# EAGLE library part STM32F730Z8 (library sjg-stm32)
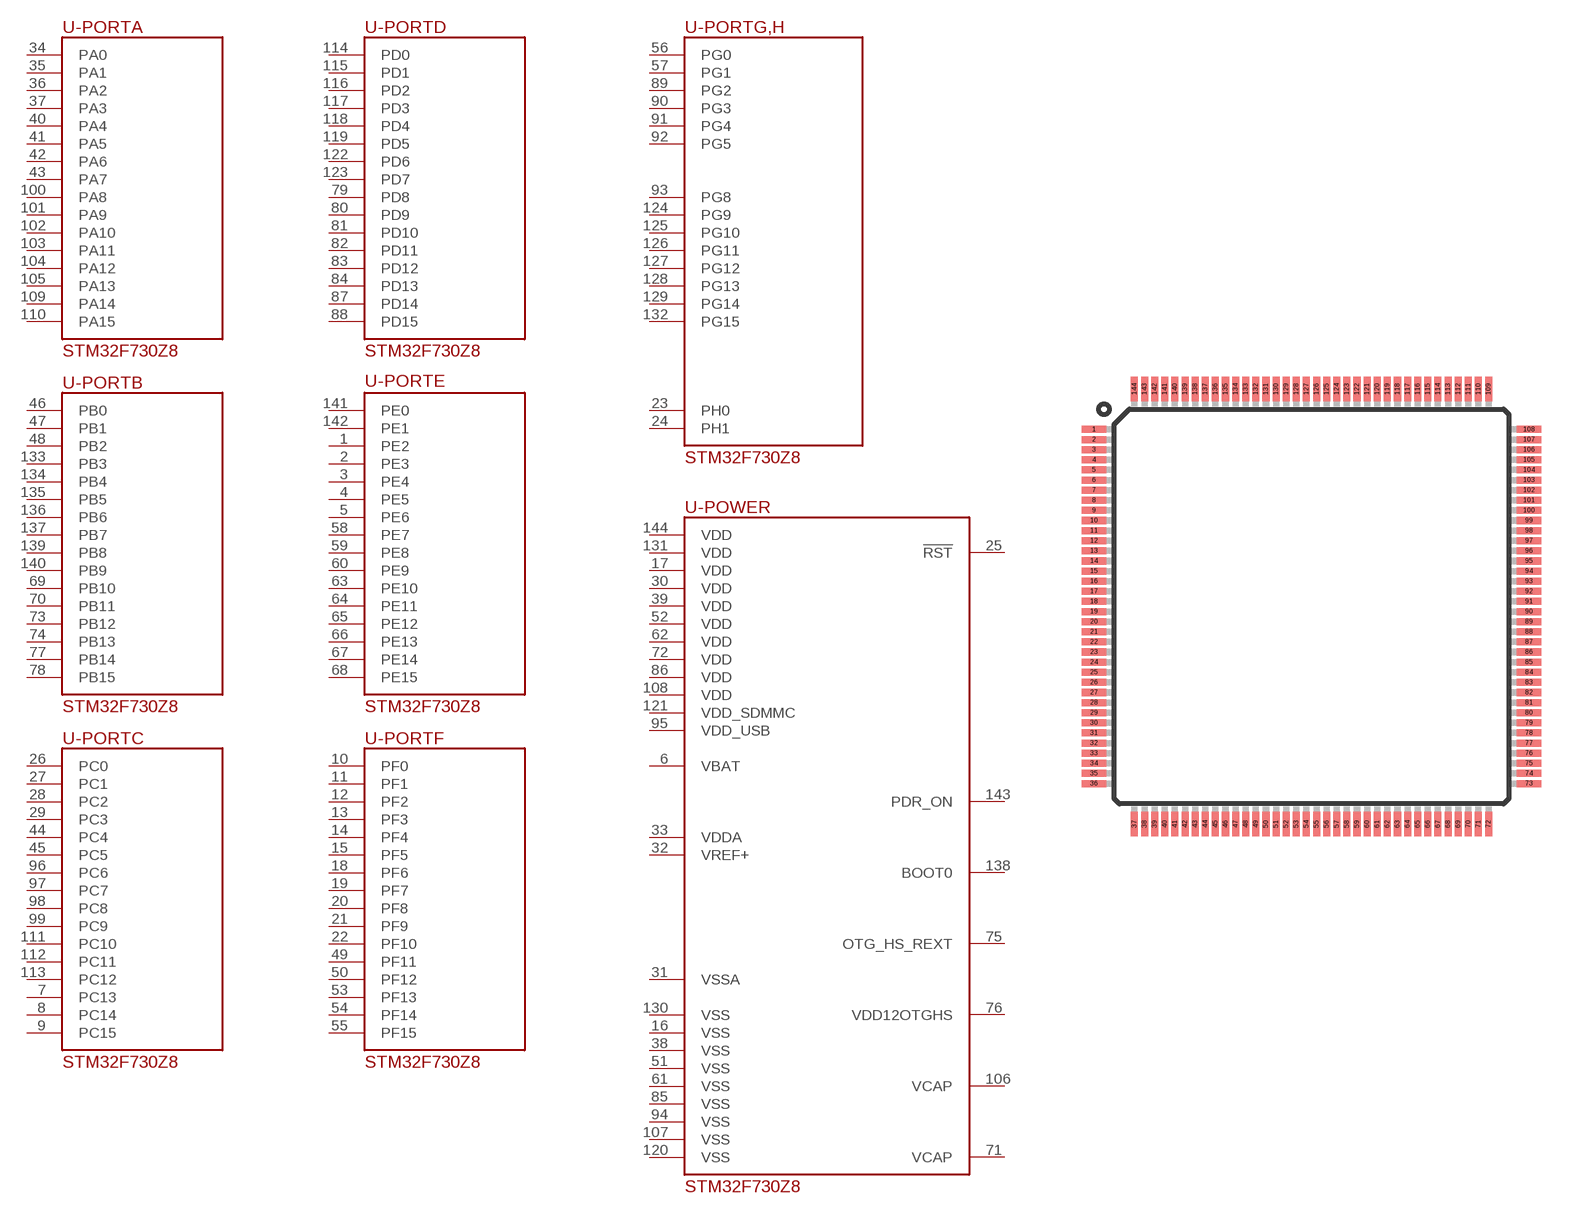
[diagram p10: symbol with the pads of PQFP144; footprint PQFP144]

Designator prefix -; gates -PORTA=STM32F730Z8-A -PORTB=STM32F730Z8-B -PORTC=STM32F730Z8-C -PORTD=STM32F730Z8-D -PORTE=STM32F730Z8-E -PORTF=STM32F730Z8-F -PORTG,H=STM32F730Z8-GH -POWER=STM32F730Z8-POWER

## STM32F730Z8QFP144  [PQFP144]
1  -PORTE:PE2
2  -PORTE:PE3
3  -PORTE:PE4
4  -PORTE:PE5
5  -PORTE:PE6
6  -POWER:VBAT
7  -PORTC:PC13
8  -PORTC:PC14
9  -PORTC:PC15
10  -PORTF:PF0
11  -PORTF:PF1
12  -PORTF:PF2
13  -PORTF:PF3
14  -PORTF:PF4
15  -PORTF:PF5
16  -POWER:VSS
17  -POWER:VDD
18  -PORTF:PF6
19  -PORTF:PF7
20  -PORTF:PF8
21  -PORTF:PF9
22  -PORTF:PF10
23  -PORTG,H:PH0
24  -PORTG,H:PH1
25  -POWER:!RST!
26  -PORTC:PC0
27  -PORTC:PC1
28  -PORTC:PC2
29  -PORTC:PC3
30  -POWER:VDD
31  -POWER:VSSA
32  -POWER:VREF+
33  -POWER:VDDA
34  -PORTA:PA0
35  -PORTA:PA1
36  -PORTA:PA2
37  -PORTA:PA3
38  -POWER:VSS
39  -POWER:VDD
40  -PORTA:PA4
41  -PORTA:PA5
42  -PORTA:PA6
43  -PORTA:PA7
44  -PORTC:PC4
45  -PORTC:PC5
46  -PORTB:PB0
47  -PORTB:PB1
48  -PORTB:PB2
49  -PORTF:PF11
50  -PORTF:PF12
51  -POWER:VSS
52  -POWER:VDD
53  -PORTF:PF13
54  -PORTF:PF14
55  -PORTF:PF15
56  -PORTG,H:PG0
57  -PORTG,H:PG1
58  -PORTE:PE7
59  -PORTE:PE8
60  -PORTE:PE9
61  -POWER:VSS
62  -POWER:VDD
63  -PORTE:PE10
64  -PORTE:PE11
65  -PORTE:PE12
66  -PORTE:PE13
67  -PORTE:PE14
68  -PORTE:PE15
69  -PORTB:PB10
70  -PORTB:PB11
71  -POWER:VCAP
72  -POWER:VDD
73  -PORTB:PB12
74  -PORTB:PB13
75  -POWER:OTG_HS_REXT
76  -POWER:VDD12OTGHS
77  -PORTB:PB14
78  -PORTB:PB15
79  -PORTD:PD8
80  -PORTD:PD9
81  -PORTD:PD10
82  -PORTD:PD11
83  -PORTD:PD12
84  -PORTD:PD13
85  -POWER:VSS
86  -POWER:VDD
87  -PORTD:PD14
88  -PORTD:PD15
89  -PORTG,H:PG2
90  -PORTG,H:PG3
91  -PORTG,H:PG4
92  -PORTG,H:PG5
93  -PORTG,H:PG8
94  -POWER:VSS
95  -POWER:VDD_USB
96  -PORTC:PC6
97  -PORTC:PC7
98  -PORTC:PC8
99  -PORTC:PC9
100  -PORTA:PA8
101  -PORTA:PA9
102  -PORTA:PA10
103  -PORTA:PA11
104  -PORTA:PA12
105  -PORTA:PA13
106  -POWER:VCAP
107  -POWER:VSS
108  -POWER:VDD
109  -PORTA:PA14
110  -PORTA:PA15
111  -PORTC:PC10
112  -PORTC:PC11
113  -PORTC:PC12
114  -PORTD:PD0
115  -PORTD:PD1
116  -PORTD:PD2
117  -PORTD:PD3
118  -PORTD:PD4
119  -PORTD:PD5
120  -POWER:VSS
121  -POWER:VDD_SDMMC
122  -PORTD:PD6
123  -PORTD:PD7
124  -PORTG,H:PG9
125  -PORTG,H:PG10
126  -PORTG,H:PG11
127  -PORTG,H:PG12
128  -PORTG,H:PG13
129  -PORTG,H:PG14
130  -POWER:VSS
131  -POWER:VDD
132  -PORTG,H:PG15
133  -PORTB:PB3
134  -PORTB:PB4
135  -PORTB:PB5
136  -PORTB:PB6
137  -PORTB:PB7
138  -POWER:BOOT0
139  -PORTB:PB8
140  -PORTB:PB9
141  -PORTE:PE0
142  -PORTE:PE1
143  -POWER:PDR_ON
144  -POWER:VDD

## Footprint PQFP144 (pad centres in mm)
Plastic Quad Flat Pack
smd 1.2 x 0.35: 1 -10.75,8.75; 2 -10.75,8.25; 3 -10.75,7.75; 4 -10.75,7.25; 5 -10.75,6.75; 6 -10.75,6.25; 7 -10.75,5.75; 8 -10.75,5.25; 9 -10.75,4.75; 10 -10.75,4.25; 11 -10.75,3.75; 12 -10.75,3.25; 13 -10.75,2.75; 14 -10.75,2.25; 15 -10.75,1.75; 16 -10.75,1.25; 17 -10.75,0.75; 18 -10.75,0.25; 19 -10.75,-0.25; 20 -10.75,-0.75; 21 -10.75,-1.25; 22 -10.75,-1.75; 23 -10.75,-2.25; 24 -10.75,-2.75; 25 -10.75,-3.25; 26 -10.75,-3.75; 27 -10.75,-4.25; 28 -10.75,-4.75; 29 -10.75,-5.25; 30 -10.75,-5.75; 31 -10.75,-6.25; 32 -10.75,-6.75; 33 -10.75,-7.25; 34 -10.75,-7.75; 35 -10.75,-8.25; 36 -10.75,-8.75; 73 10.75,-8.75; 74 10.75,-8.25; 75 10.75,-7.75; 76 10.75,-7.25; 77 10.75,-6.75; 78 10.75,-6.25; 79 10.75,-5.75; 80 10.75,-5.25; 81 10.75,-4.75; 82 10.75,-4.25; 83 10.75,-3.75; 84 10.75,-3.25; 85 10.75,-2.75; 86 10.75,-2.25; 87 10.75,-1.75; 88 10.75,-1.25; 89 10.75,-0.75; 90 10.75,-0.25; 91 10.75,0.25; 92 10.75,0.75; 93 10.75,1.25; 94 10.75,1.75; 95 10.75,2.25; 96 10.75,2.75; 97 10.75,3.25; 98 10.75,3.75; 99 10.75,4.25; 100 10.75,4.75; 101 10.75,5.25; 102 10.75,5.75; 103 10.75,6.25; 104 10.75,6.75; 105 10.75,7.25; 106 10.75,7.75; 107 10.75,8.25; 108 10.75,8.75
smd 0.35 x 1.2: 37 -8.75,-10.75; 38 -8.25,-10.75; 39 -7.75,-10.75; 40 -7.25,-10.75; 41 -6.75,-10.75; 42 -6.25,-10.75; 43 -5.75,-10.75; 44 -5.25,-10.75; 45 -4.75,-10.75; 46 -4.25,-10.75; 47 -3.75,-10.75; 48 -3.25,-10.75; 49 -2.75,-10.75; 50 -2.25,-10.75; 51 -1.75,-10.75; 52 -1.25,-10.75; 53 -0.75,-10.75; 54 -0.25,-10.75; 55 0.25,-10.75; 56 0.75,-10.75; 57 1.25,-10.75; 58 1.75,-10.75; 59 2.25,-10.75; 60 2.75,-10.75; 61 3.25,-10.75; 62 3.75,-10.75; 63 4.25,-10.75; 64 4.75,-10.75; 65 5.25,-10.75; 66 5.75,-10.75; 67 6.25,-10.75; 68 6.75,-10.75; 69 7.25,-10.75; 70 7.75,-10.75; 71 8.25,-10.75; 72 8.75,-10.75; 109 8.75,10.75; 110 8.25,10.75; 111 7.75,10.75; 112 7.25,10.75; 113 6.75,10.75; 114 6.25,10.75; 115 5.75,10.75; 116 5.25,10.75; 117 4.75,10.75; 118 4.25,10.75; 119 3.75,10.75; 120 3.25,10.75; 121 2.75,10.75; 122 2.25,10.75; 123 1.75,10.75; 124 1.25,10.75; 125 0.75,10.75; 126 0.25,10.75; 127 -0.25,10.75; 128 -0.75,10.75; 129 -1.25,10.75; 130 -1.75,10.75; 131 -2.25,10.75; 132 -2.75,10.75; 133 -3.25,10.75; 134 -3.75,10.75; 135 -4.25,10.75; 136 -4.75,10.75; 137 -5.25,10.75; 138 -5.75,10.75; 139 -6.25,10.75; 140 -6.75,10.75; 141 -7.25,10.75; 142 -7.75,10.75; 143 -8.25,10.75; 144 -8.75,10.75